# Altium schematic symbol library npn-bjt_BCE.Schlib: 1 symbol
Pins are listed as number, name and electrical type; pins without a type are passive.

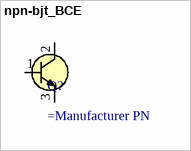
[diagram p0: symbol npn-bjt_BCE]

## npn-bjt_BCE
designator Q?
NPN BJT 3 Terminal
pins: 1 B, 2 C, 3 E